# Altium schematic symbol library Micro Crystal.SchLib: 1 symbol
Pins are listed as number, name and electrical type; pins without a type are passive.

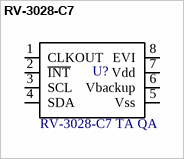
[diagram p0: symbol RV-3028-C7]

## RV-3028-C7
designator U?, comment Part Number: RV-3028-C7 TA QA  (hidden comment: Extreme Low Power RTC Module with XTAL)
Manufacturer: Micro Crystal AG; Price 1: 2.91; Price 100: 2.14; Price 1000: 1.82
footprint RV-3028-C7
pins: 1 CLKOUT, 2 ~{INT}, 3 SCL, 4 SDA, 5 Vss, 6 Vbackup, 7 Vdd, 8 EVI